# Altium schematic symbol library EL357N(B)(TA)-G.Schlib: 1 symbol
Pins are listed as number, name and electrical type; pins without a type are passive.

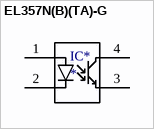
[diagram p0: symbol EL357N(B)(TA)-G]

## EL357N(B)(TA)-G
designator IC*
TransistorOptocouplers DC 1 3750Vrms SOP-4_P2.54 Optocouplers RoHS; ComponentLink1Description: LCSC - Everlight Elec EL357N(B)(TA)-G; ComponentLink1URL: https://lcsc.com/product-detail/SMD-Optocouplers_EL357N-B-TA-G_C6649.html/?href=jlc-SMT; LCSC Part #: C6649; JLCPCB Part Type: Basic
footprint SOP-4_4.1x4.4x2.54P
pins: 1, 2, 3 (oe), 4 (oc)